# Altium footprint library TPS645-5NC60.PcbLib: 1 footprints
Each footprint in its own frame and in the unit in brackets; x right, y up, seen from the top. Pads: shape width x height; smd on the part's side, far side on the other; paste and mask are expansions set on the pad; w line width, h text height; cw(c..) or ccw(c..) is an arc to the next point about the centre after c.
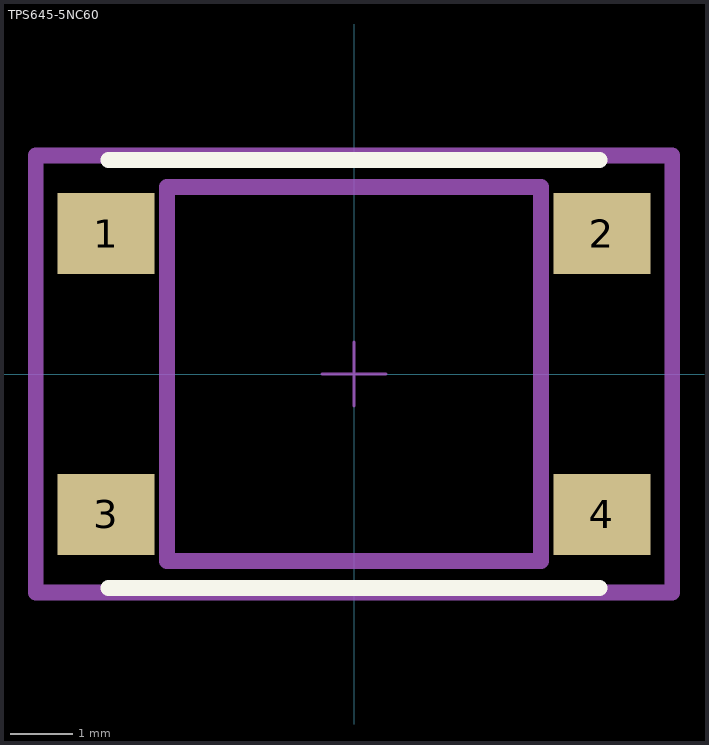
[diagram p0: the footprint, top view; thin cyan lines are the x and y axes]

## TPS645-5NC60 [mm] "Tactile Switch/Push Button Switch ROHS"
pads (4):
  rect 1.55x1.3 smd: 1(-3.975,2.25) 2(3.975,2.25) 3(-3.975,-2.25) 4(3.975,-2.25)
Top Overlay:
  lines w0.254: -3.937,-3.429 3.937,-3.429 ; -3.937,3.429 3.937,3.429
Top Assembly:
  lines w0.254: -3,-3 3,-3 3,3 -3,3 -3,-3
  text ".Designator" at 0,0.286 h1.52
Top Courtyard (Mech15):
  lines w0.254: -5.1,-3.5 5.1,-3.5 5.1,3.5 -5.1,3.5 -5.1,-3.5
Top Component Center:
  lines w0.051: -0.508,0 0.508,0 ; 0,-0.508 0,0.508